# EAGLE library part R420D (library fitre)
R420D Subminiature Relay DPDT. 5, 6, 9, 12, 15, 24, 48Vdc coil voltage; 1A 125Vac, 2A 30Vdc rated load.
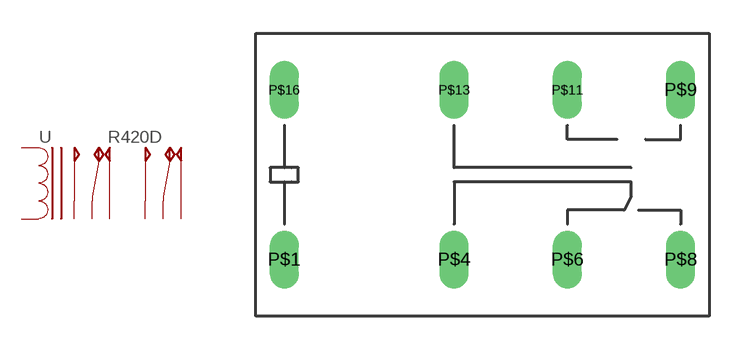
[diagram p4: symbol with the pads of R420D; footprint R420D]

Designator prefix -

## R420D  [R420D]
P$1  P$1  pas
P$4  P$4  pas
P$6  P$6  pas
P$8  P$8  pas
P$9  P$9  pas
P$11  P$11  pas
P$13  P$13  pas
P$16  P$16  pas

## Footprint R420D (pad centres in mm)
drill 0.8 long: P$1 0,0; P$4 7.62,0; P$6 12.7,0; P$8 17.78,0; P$9 17.78,7.62; P$11 12.7,7.62; P$13 7.62,7.62; P$16 0,7.62